# Altium schematic symbol library SCH - POWER - SWITCHMODE - TI TPS5110_PW_24.SchLib: 1 symbol
Pins are listed as number, name and electrical type; pins without a type are passive.

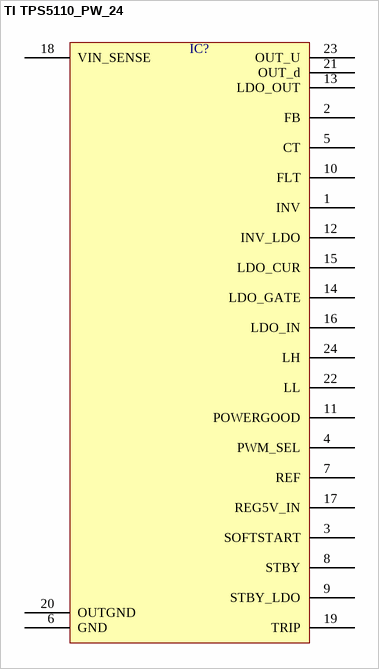
[diagram p0: symbol TI TPS5110_PW_24]

## TI TPS5110_PW_24
designator IC?  (value not drawn)
pins: 1 INV, 2 FB, 3 SOFTSTART, 4 PWM_SEL, 5 CT, 6 GND, 7 REF, 8 STBY, 9 STBY_LDO, 10 FLT, 11 POWERGOOD, 12 INV_LDO, 13 LDO_OUT, 14 LDO_GATE, 15 LDO_CUR, 16 LDO_IN, 17 REG5V_IN, 18 VIN_SENSE, 19 TRIP, 20 OUTGND, 21 OUT_d, 22 LL, 23 OUT_U, 24 LH